# Altium schematic symbol library Analog_Device.SchLib: 1 symbol
Pins are listed as number, name and electrical type; pins without a type are passive.

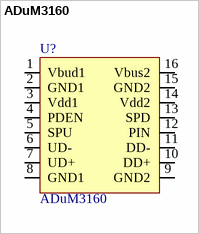
[diagram p0: symbol ADuM3160]

## ADuM3160
designator U?
Price: *; Catalog: *; Catalog number: *; Catalog page: *
footprint RW-16_N (16-Pin Wide Body Small Outline Integrated Circuit 1.27 mm Pitch, IPC Medium Density)
pins: 1 Vbud1, 2 GND1, 3 Vdd1, 4 PDEN, 5 SPU, 6 UD-, 7 UD+, 8 GND1, 9 GND2, 10 DD+, 11 DD-, 12 PIN, 13 SPD, 14 Vdd2, 15 GND2, 16 Vbus2